# Altium integrated library ICs - Operational Amplifiers.IntLib: 1 symbol
Pins are listed as number, name and electrical type; pins without a type are passive.

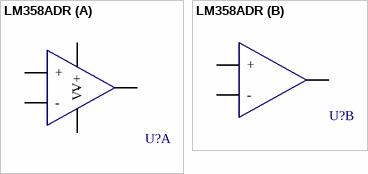
[diagram p0: symbol LM358ADR]

## LM358ADR
designator U?  (value not drawn)
General Purpose Amplifier 2 Circuit  8-SOIC; Manufacturer 1: Texas Instruments; ComponentLink1Description: Datasheet; ComponentLink1URL: http://www.ti.com/lit/ds/symlink/lm358.pdf; Digikey PN: 296-14601-1-ND; Manufacturer 1 PN: LM358ADR; Mouser PN: 595-LM358ADR
footprint LM358ADR (General Purpose Amplifier 2 Circuit  8-SOIC)
part A pins: 1 (power), 2 - (power), 3 + (power), 4 V- (power), 8 V+ (power)
part B pins: 5 + (power), 6 - (power), 7 (power)